# Altium integrated library ECG circuit.IntLib: 6 symbols
Pins are listed as number, name and electrical type; pins without a type are passive.

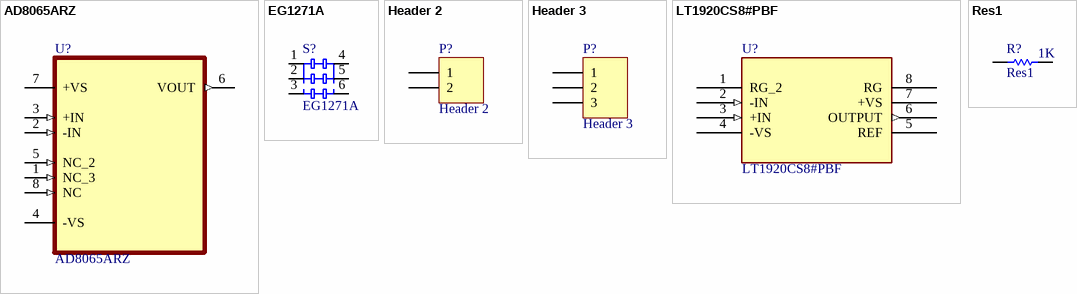
[diagram p0: symbols AD8065ARZ to Res1]

## AD8065ARZ
designator U?
Voltage Feedback Amplifier 1 Circuit Rail-to-Rail 8-SOIC; MF: Analog Devices; Package: SOIC-8 Analog Devices; SnapEDA_Link: https://www.snapeda.com/parts/AD8065ARZ/Analog%20Devices%20Inc./view-part/48278/?ref=snap; Mouser-Purchase-URL: https://snapeda.com/shop?store=Mouser&id=48278; DigiKey-Purchase-URL: https://snapeda.com/shop?store=DigiKey&id=48278; MP: AD8065ARZ; Price: None; Availability: Good; Value: *; BuyPart: https://www.snapeda.com/parts/AD8065ARZ/Analog%20Devices%20Inc./view-part/48278/?ref=eda
footprint SOIC127P600X175-8N
pins: 1 NC_3 (in), 2 -IN (in), 3 +IN (in), 4 -VS (power), 5 NC_2 (in), 6 VOUT (out), 7 +VS (power), 8 NC (in)

## EG1271A
designator S?
Slide Switch SPDT Through Hole; MF: E-Switch; MP: EG1271A; SnapEDA_Link: https://www.snapeda.com/parts/EG1271A/E-Switch/view-part/304406/?ref=snap; Purchase-URL: https://pricing.snapeda.com/search/part/EG1271A/?ref=eda; Value: *; Package: None; Price: None; Availability: Warning; Check_prices: https://www.snapeda.com/parts/EG1271A/E-Switch/view-part/304406/?ref=eda
footprint SW_EG1271A
pins: 1, 2, 3, 4, 5, 6

## Header 2
designator P?
Header, 2-Pin; LatestRevisionDate: 17-Jul-2002; LatestRevisionNote: Re-released for DXP Platform.; Publisher: Altium Limited
footprint HDR1X2 (Connector; Header; 2 Position)
signal-integrity model Connector
pins: 1, 2

## Header 3
designator P?
Header, 3-Pin; LatestRevisionDate: 17-Jul-2002; LatestRevisionNote: Re-released for DXP Platform.; Publisher: Altium Limited
footprint HDR1X3 (Connector; Header; 3 Position)
signal-integrity model Connector
pins: 1, 2, 3

## LT1920CS8#PBF
designator U?
LT1920 - Single Resistor Gain Programmable, Precision Instrumentation Amplifier; MF: Analog Devices; MP: LT1920CS8#PBF; SnapEDA_Link: https://www.snapeda.com/parts/LT1920CS8%23PBF/Analog+Devices/view-part/?ref=snap; Availability: In Stock; Package: SO-8 Linear Technology; Purchase-URL: https://pricing.snapeda.com/search/part/LT1920CS8#PBF/?ref=eda; Check_prices: https://www.snapeda.com/parts/LT1920CS8%23PBF/Analog+Devices/view-part/?ref=eda; Value: *; Price: None
footprint SO-8_S
pins: 1 RG_2, 2 -IN (in), 3 +IN (in), 4 -VS (power), 5 REF, 6 OUTPUT (out), 7 +VS (power), 8 RG

## Res1
designator R?  value 1K
Resistor; Published: 8-Jun-2000; LatestRevisionDate: 17-Jul-2002; LatestRevisionNote: Re-released for DXP Platform.; PackageReference: AXIAL-0.3; Publisher: Altium Limited; PackageDescription: Axial Device, Thru-Hole; 2 Leads; 0.3 in Pin Spacing
footprint AXIAL-0.3 (Axial Device, Thru-Hole; 2 Leads; 0.3 in Pin Spacing)
simulation model RESISTOR (Resistor)
signal-integrity model Res
pins: 1, 2